# EAGLE library part 50208-011 (library con-aces-50208-series)
ACES CONNECTORS 50208 SERIES ACES Connecors 50208 <https://www.acesconn.com/tw/series/50208-xxxxx-xxx/1224>
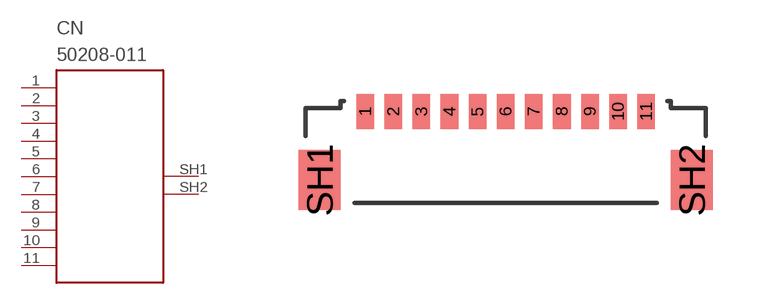
[diagram p7: symbol with the pads of 50208-011; footprint 50208-011]

Designator prefix CN

## 50208-011  [50208-011]
1  1
2  2
3  3
4  4
5  5
6  6
7  7
8  8
9  9
10  10
11  11
SH1  SH1
SH2  SH2

## Footprint 50208-011 (pad centres in mm)
smd 0.5 x 1: 1 -4,0; 2 -3.2,0; 3 -2.4,0; 4 -1.6,0; 5 -0.8,0; 6 0,0; 7 0.8,0; 8 1.6,0; 9 2.4,0; 10 3.2,0; 11 4,0
smd 1.2 x 1.7: SH1 -5.3,-1.95; SH2 5.3,-1.95